# Altium schematic symbol library Connector.SchLib: 18 symbols
Pins are listed as number, name and electrical type; pins without a type are passive.

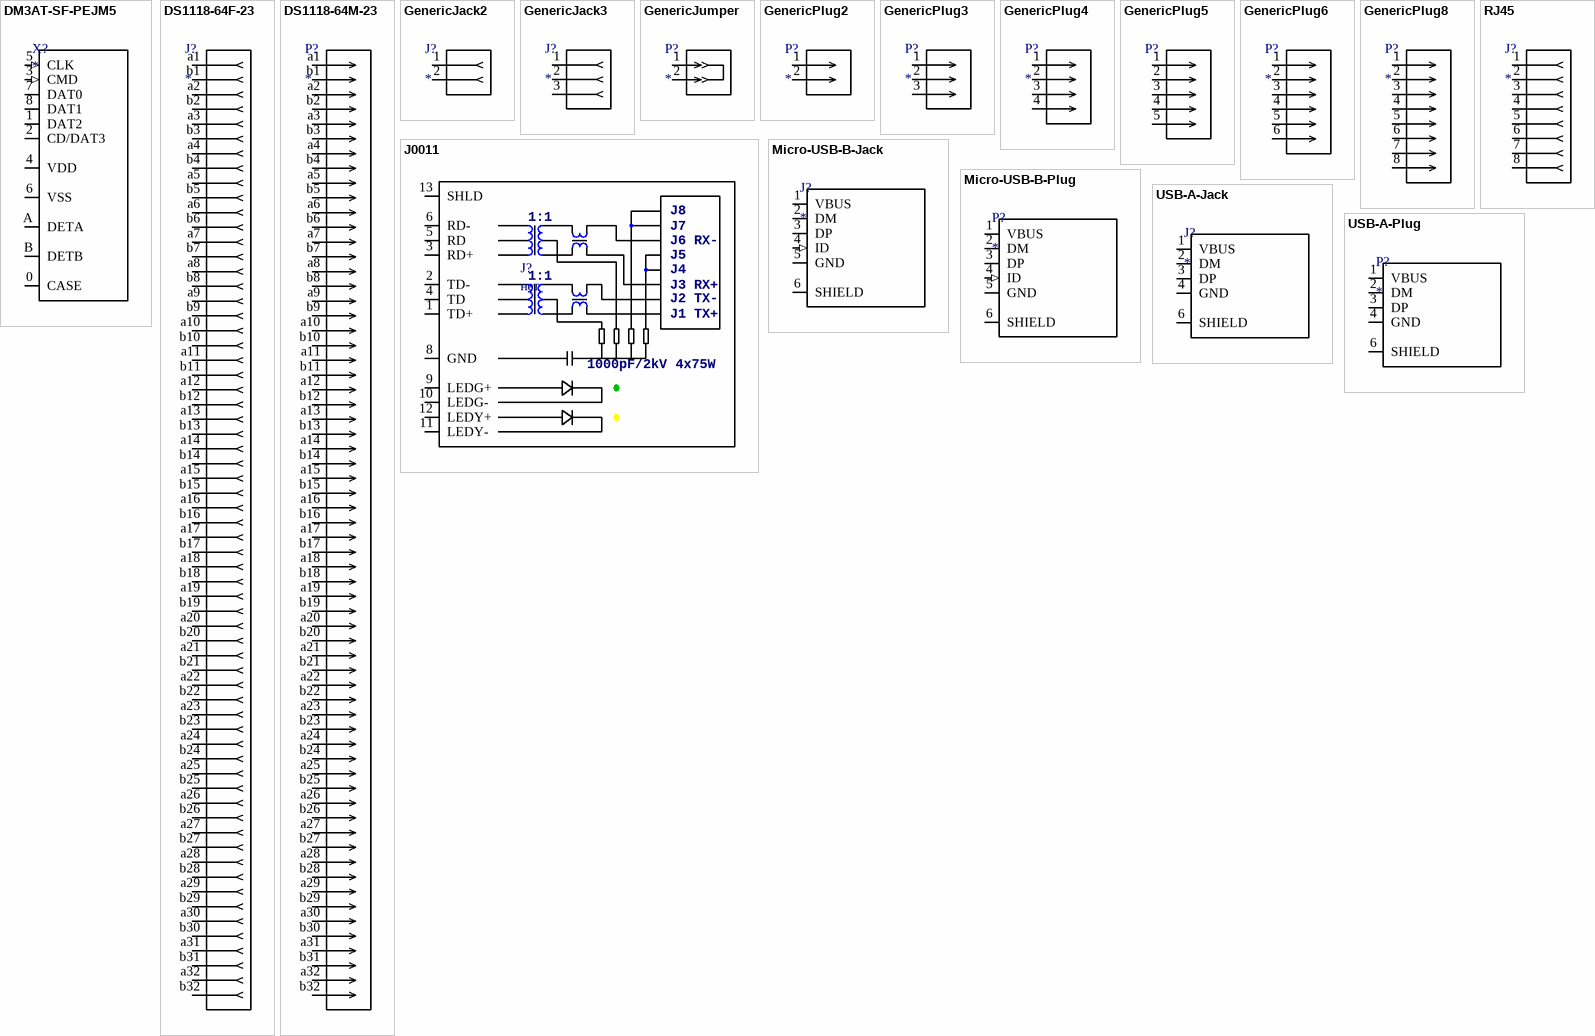
[diagram p0: symbols DM3AT-SF-PEJM5 to USB-A-Plug]

## DM3AT-SF-PEJM5
designator X?
Name: *
pins: 0 CASE, 1 DAT2 (io), 2 CD/DAT3 (io), 3 CMD (in), 4 VDD (power), 5 CLK (in), 6 VSS (power), 7 DAT0 (io), 8 DAT1 (io), A DETA, B DETB

## DS1118-64F-23
designator J?
DIN 41612 64-position jack; Name: *
pins: a1 1, a2 3, a3 5, a4 7, a5 1, a6 3, a7 5, a8 7, a9 1, a10 3, a11 5, a12 7, a13 1, a14 3, a15 5, a16 7, a17 1, a18 3, a19 5, a20 7, a21 1, a22 3, a23 5, a24 7, a25 1, a26 3, a27 5, a28 7, a29 1, a30 3, a31 5, a32 7, b1 2, b2 4, b3 6, b4 8, b5 2, b6 4, b7 6, b8 8, b9 2, b10 4, b11 6, b12 8, b13 2, b14 4, b15 6, b16 8, b17 2, b18 4, b19 6, b20 8, b21 2, b22 4, b23 6, b24 8, b25 2, b26 4, b27 6, b28 8, b29 2, b30 4, b31 6, b32 8

## DS1118-64M-23
designator P?
DIN 41612 64-position plug; Name: *
pins: a1 1, a2 3, a3 5, a4 7, a5 1, a6 3, a7 5, a8 7, a9 1, a10 3, a11 5, a12 7, a13 1, a14 3, a15 5, a16 7, a17 1, a18 3, a19 5, a20 7, a21 1, a22 3, a23 5, a24 7, a25 1, a26 3, a27 5, a28 7, a29 1, a30 3, a31 5, a32 7, b1 2, b2 4, b3 6, b4 8, b5 2, b6 4, b7 6, b8 8, b9 2, b10 4, b11 6, b12 8, b13 2, b14 4, b15 6, b16 8, b17 2, b18 4, b19 6, b20 8, b21 2, b22 4, b23 6, b24 8, b25 2, b26 4, b27 6, b28 8, b29 2, b30 4, b31 6, b32 8

## GenericJack2
designator J?
Generic 2-position plug; Name: *
pins: 1, 2

## GenericJack3
designator J?
Generic 3-position plug; Name: *
pins: 1, 2, 3

## GenericJumper
designator P?
Generic Jumper; Name: *
pins: 1, 2

## GenericPlug2
designator P?
Generic 2-position plug; Name: *
pins: 1, 2

## GenericPlug3
designator P?
Generic 3-position plug; Name: *
pins: 1, 2, 3

## GenericPlug4
designator P?
Generic 4-position plug; Name: *
pins: 1, 2, 3, 4

## GenericPlug5
designator P?  (value not drawn)
Generic 5-position plug; Name: *
pins: 1, 2, 3, 4, 5

## GenericPlug6
designator P?
Generic 6-position plug; Name: *
pins: 1, 2, 3, 4, 5, 6

## GenericPlug8
designator P?
Generic 8-position plug; Name: *
pins: 1, 2, 3, 4, 5, 6, 7, 8

## J0011
designator J?, comment нет
Pulse J0011; Name: нет
pins: 1 TD+, 2 TD-, 3 RD+, 4 TD, 5 RD, 6 RD-, 8 GND, 9 LEDG+, 10 LEDG-, 11 LEDY-, 12 LEDY+, 13 SHLD
text: J8; 1:1; J7; J6 RX-; J5; J4; J3 RX+; J2 TX-; J1 TX+; 1000pF/2kV; 4x75W

## Micro-USB-B-Jack
designator J?
Name: *
pins: 1 VBUS (power), 2 DM (io), 3 DP (io), 4 ID (in), 5 GND (power), 6 SHIELD (power)

## Micro-USB-B-Plug
designator P?
Name: *
pins: 1 VBUS (power), 2 DM (io), 3 DP (io), 4 ID (in), 5 GND (power), 6 SHIELD (power)

## RJ45
designator J?
RJ45; Name: *
pins: 1, 2, 3, 4, 5, 6, 7, 8

## USB-A-Jack
designator J?
Name: *
pins: 1 VBUS (power), 2 DM (io), 3 DP (io), 4 GND (power), 6 SHIELD (power)

## USB-A-Plug
designator P?
Name: *
pins: 1 VBUS (power), 2 DM (io), 3 DP (io), 4 GND (power), 6 SHIELD (power)